# Altium footprint library Y.PcbLib: 7 footprints
Each footprint in its own frame and in the unit in brackets; x right, y up, seen from the top. Pads: shape width x height; smd on the part's side, far side on the other; paste and mask are expansions set on the pad; w line width, h text height; cw(c..) or ccw(c..) is an arc to the next point about the centre after c.
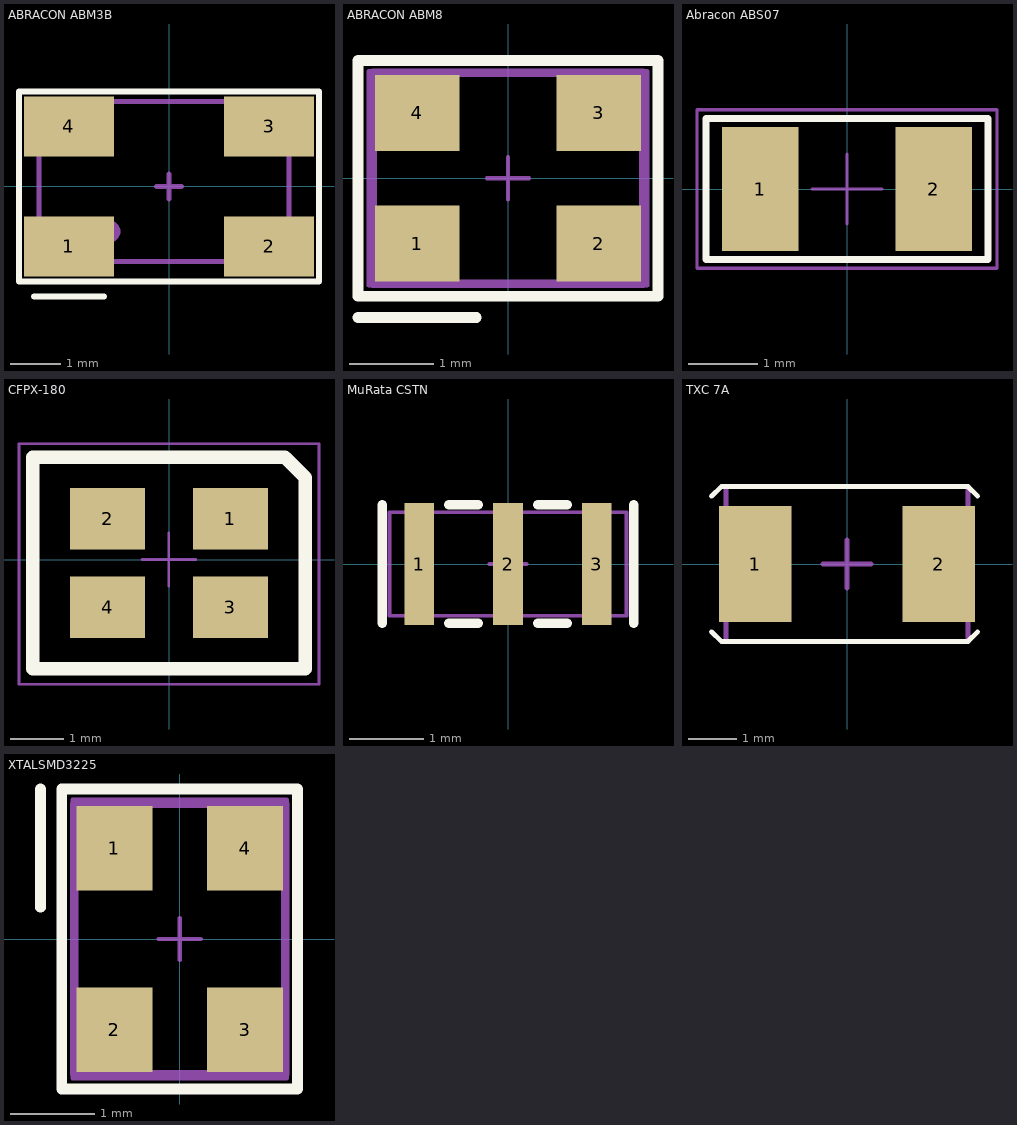
[diagram p0: the footprints below, top view; thin cyan lines are the x and y axes]

## ABRACON ABM3B [mm] "Crystal Package 4-SMD 3.2x2.5mm"
height 0.8
pads (4):
  rect 1.8x1.2 smd: 1(-2,-1.2) 2(2,-1.2) 3(2,1.2) 4(-2,1.2)
Top Overlay:
  lines w0.127: -2.7,-2.2 -1.3,-2.2 ; -3,-1.9 3,-1.9 3,1.9 -3,1.9 -3,-1.9
Mechanical 3:
  text ".Designator" at 0,0.6 h0.5
Mechanical 13:
  circle w0.254: c-1.2,-0.9 r0.1
Mechanical 15:
  lines w0.1: -0.25,0 0.25,0 ; 0,-0.25 0,0.25 ; -2.6,-1.5 2.4,-1.5 2.4,1.7 -2.6,1.7 -2.6,-1.5
3D body "User Library-ABM3B.STEP": height 1.1, standoff 0, extent -2.6,-1.5 2.4,1.7

## ABRACON ABM8 [mm] "Crystal Package 4-SMD 3.2x2.5mm"
height 0.8
pads (4):
  rect 1x0.9 smd: 1(-1.075,-0.775) 2(1.075,-0.775) 3(1.075,0.775) 4(-1.075,0.775)
Top Overlay:
  lines w0.127: -1.778,-1.651 -0.378,-1.651 ; -1.778,-1.397 -1.778,1.397 1.778,1.397 1.778,-1.397 -1.778,-1.397
Mechanical 3:
  text ".Designator" at -1.778,1.651 h0.5
Mechanical 13:
  circle w0.254: c-1.2,-0.9 r0.1
  lines w0.1: -1.6,-1.25 -1.6,1.25 1.6,1.25 1.6,-1.25 -1.6,-1.25
Mechanical 15:
  lines w0.05: -0.25,0 0.25,0 ; 0,-0.25 0,0.25 ; -1.651,-1.27 -1.651,1.27 1.651,1.27 1.651,-1.27 -1.651,-1.27
3D body "ABM8.STEP": height 0.8, standoff 0, extent -1.6,-1.244 1.6,1.245

## Abracon ABS07 [mm]
pads (2):
  rect 1.1x1.778 smd: 1(-1.25,0) 2(1.25,0)
Top Overlay:
  lines w0.1: -2.032,-1.016 2.032,-1.016 ; -2.032,1.016 2.032,1.016
  lines w0.102: -2.032,-1.016 -2.032,1.016 ; 2.032,-1.016 2.032,1.016
Mechanical 3:
  text ".Designator" at -1.778,1.524 h0.5
Mechanical 15:
  lines w0.05: -0.5,0 0.5,0 ; 0,-0.5 0,0.5 ; -2.159,-1.143 2.159,-1.143 2.159,1.143 -2.159,1.143 -2.159,-1.143
3D body "ABS07.STEP": height 0.89, standoff 0, extent -1.6,-0.749 1.6,0.749

## CFPX-180 [mm]
pads (4):
  rect 1.4x1.15 smd: 1(1.143,0.762) 2(-1.143,0.762) 3(1.143,-0.889) 4(-1.143,-0.889)
Top Overlay:
  lines w0.254: -2.54,-0.635 -2.54,1.905 2.159,1.905 2.54,1.524 2.54,-2.032 -2.54,-2.032 -2.54,-0.572
Mechanical 3:
  text ".Designator" at 0,2.413 h0.5
Mechanical 15:
  lines w0.05: -0.503,0 0.497,0 ; -0.003,-0.5 -0.003,0.5 ; -2.794,-2.326 -2.794,2.159 2.794,2.159 2.794,-2.326 -2.794,-2.326

## MuRata CSTN [mm] "Crystal Package 4-SMD 3.2x2.5mm"
height 0.8
pads (3):
  rect 0.4x1.65 smd: 1(-1.2,0) 2(0,0) 3(1.2,0)
Top Overlay:
  lines w0.127: -1.7,-0.8 -1.7,0.8 ; -0.8,-0.8 -0.4,-0.8 ; -0.8,0.8 -0.4,0.8 ; 0.4,-0.8 0.8,-0.8 ; 0.4,0.8 0.8,0.8 ; 1.7,-0.8 1.7,0.8
Mechanical 3:
  text ".Designator" at -1.778,1.651 h0.5
Mechanical 15:
  lines w0.05: -0.25,0 0.25,0 ; 0,-0.25 0,0.25 ; -1.6,-0.7 1.6,-0.7 1.6,0.7 -1.6,0.7 -1.6,-0.7
3D body "SW3dPS-CSTCE.STEP": height 0.7, standoff 0, extent -1.6,-0.65 1.6,0.65

## TXC 7A [mm]
pads (2):
  rect 1.5x2.4 smd: 1(-1.9,0) 2(1.9,0)
Top Overlay:
  lines w0.1: -2.8,-1.4 -2.6,-1.6 2.5,-1.6 2.7,-1.4 ; -2.8,1.4 -2.6,1.6 2.5,1.6 2.7,1.4
Mechanical 3:
  text ".Designator" at -0.1,0.9 h0.5
Mechanical 15:
  lines w0.1: -0.5,0 0.5,0 ; 0,-0.5 0,0.5 ; -2.5,-1.6 2.5,-1.6 2.5,1.6 -2.5,1.6 -2.5,-1.6
3D body "User Library-Crystal TXC 7A Series.STEP": height 1.2, standoff -0.05, extent -2.5,-1.6 2.5,1.6

## XTALSMD3225 [mm] "Crystal Package 4-SMD 3.2x2.5mm"
height 0.8
pads (4):
  rect 0.9x1 smd: 1(-0.775,1.075) 2(-0.775,-1.075) 3(0.775,-1.075) 4(0.775,1.075)
Top Overlay:
  lines w0.127: -1.651,0.378 -1.651,1.778 ; -1.397,-1.778 -1.397,1.778 1.397,1.778 1.397,-1.778 -1.397,-1.778
Mechanical 3:
  text ".Designator" at 1.651,1.778 h0.5
Mechanical 13:
  circle w0.254: c-0.9,1.2 r0.1
  lines w0.1: -1.25,-1.6 -1.25,1.6 1.25,1.6 1.25,-1.6 -1.25,-1.6
Mechanical 15:
  lines w0.05: -0.25,0 0.25,0 ; 0,-0.25 0,0.25 ; -1.27,-1.651 -1.27,1.651 1.27,1.651 1.27,-1.651 -1.27,-1.651
3D body "ABM8.STEP": height 0.8, standoff 0, extent -1.244,-1.6 1.245,1.6